# Altium footprint library Module.PcbLib: 11 footprints
Each footprint in its own frame and in the unit in brackets; x right, y up, seen from the top. Pads: shape width x height; smd on the part's side, far side on the other; paste and mask are expansions set on the pad; w line width, h text height; cw(c..) or ccw(c..) is an arc to the next point about the centre after c.
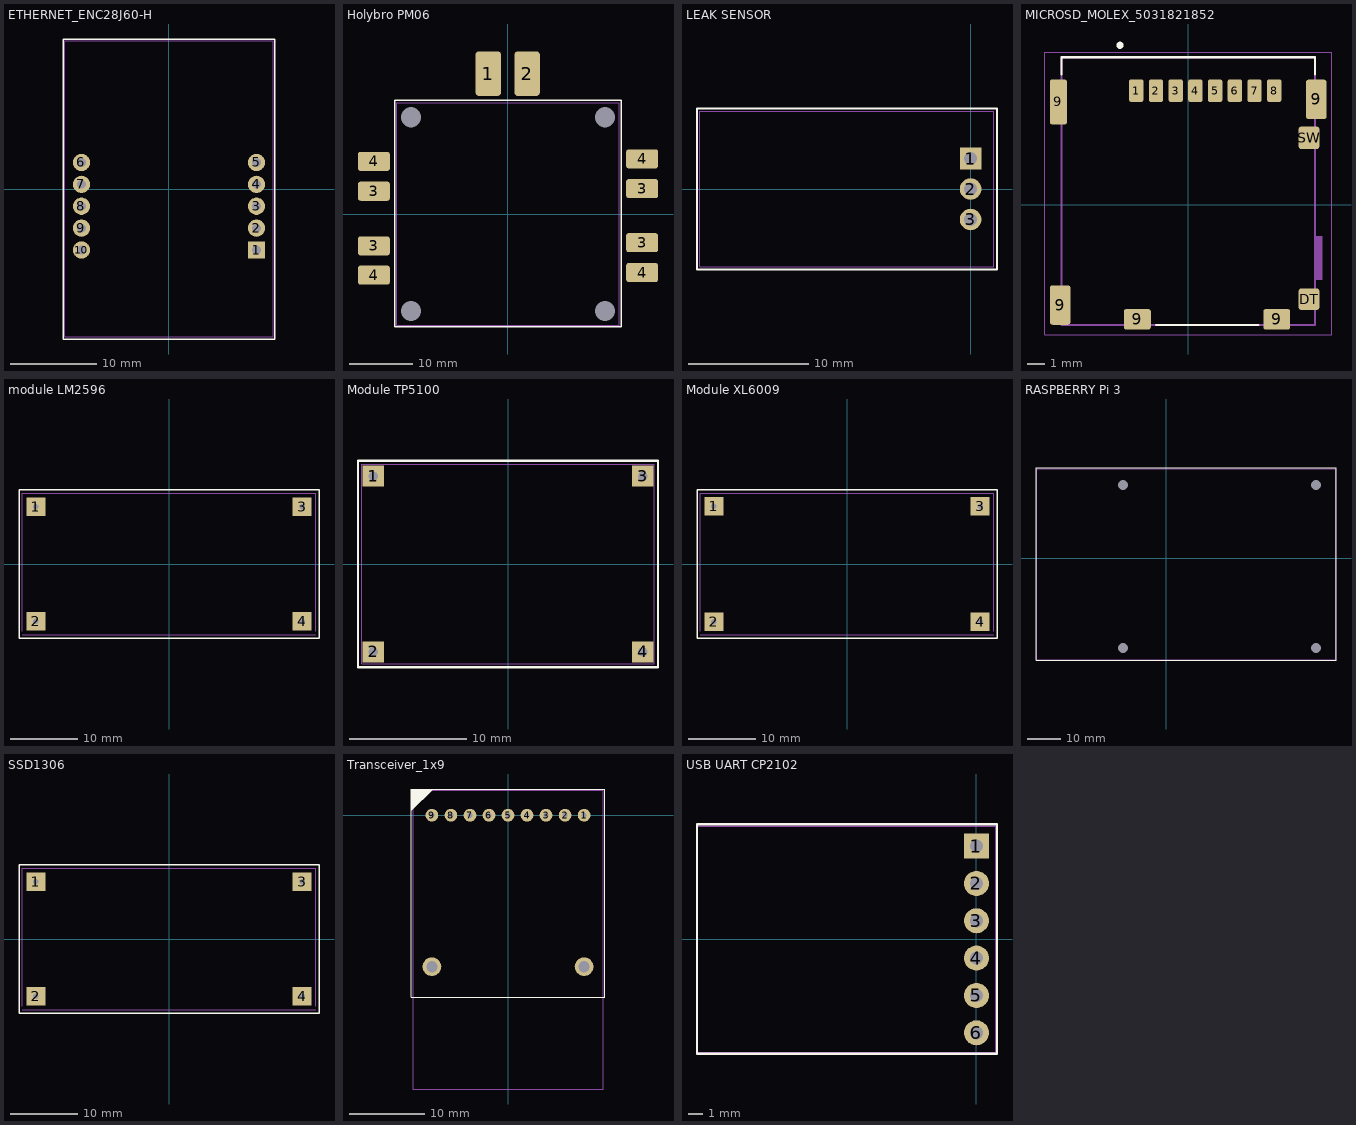
[diagram p0: the footprints below, top view; thin cyan lines are the x and y axes]

## ETHERNET_ENC28J60-H [mm]
height 0.05
pads (10):
  rect 2x2 hole 1: 1(10.15,-7.08)
  round 2 hole 1 mask+0.102: 2(10.15,-4.54) 9(-10.15,-4.54)
  round 2 hole 1: 3(10.15,-2) 4(10.15,0.54) 5(10.15,3.08) 6(-10.15,3.08) 7(-10.15,0.54) 8(-10.15,-2) 10(-10.15,-7.08)
Top Overlay:
  lines w0.15: -12.25,-17.4 -12.25,17.4 12.25,17.4 12.25,-17.4 -12.25,-17.4
Mechanical 7:
  lines w0.1: -12.065,-17.145 -12.065,17.185 12.065,17.185 12.065,-17.145 -12.065,-17.145
3D body "Rj-45.STEP": height 17, standoff -7, extent -12.065,-17.145 12.065,17.185

## Holybro PM06 [mm]
pads (14):
  rrect25% 4x7 smd: 1(-3.1,22.1) 2(3,22.1)
  rrect25% 5x3 smd: 3(-21.099,-5) 3(-21.099,3.6) 3(21.1,-4.5) 3(21.1,4) 4(-21.099,-9.6) 4(-21.099,8.3) 4(21.1,-9.2) 4(21.1,8.7)
  round 0 hole 3.2 unplated: ""(-15.25,-15.25) ""(-15.25,15.25) ""(15.25,-15.25) ""(15.25,15.25)
Top Overlay:
  lines w0.2: -17.8,-17.7 17.8,-17.7 17.8,17.9 -17.8,17.9 -17.8,-17.7
Mechanical 7:
  lines w0.05: -17.5,-17.5 17.5,-17.5 17.5,-10.5 17.5,17.5 -17.5,17.5 -17.5,-17.5
3D body "PM06.step": height 5.16, standoff 0, extent -17.5,-17.5 17.501,17.5

## LEAK SENSOR [mm]
height 0.05
pads (3):
  rect 1.8x1.8 hole 1.1: 1(0,2.54)
  round 1.8 hole 1.1: 2(0,0) 3(0,-2.54)
Top Overlay:
  lines w0.15: -22.8,-6.7 -22.8,6.7 2.2,6.7 2.2,-6.7 -22.8,-6.7
Mechanical 7:
  lines w0.1: -22.55,-6.5 -22.55,6.5 1.95,6.5 1.95,-6.5 -22.55,-6.5
3D body "sos-asm-leak-sensor-r1_asm.stp": height 9.75, standoff 0.25, extent -22.55,-6.5 1.95,6.5

## MICROSD_MOLEX_5031821852 [mm]
height 0.05
pads (15):
  rrect25% 0.8x1.24 smd: 1(-2.9,6.355) 2(-1.8,6.355) 3(-0.7,6.355) 4(0.4,6.355) 5(1.5,6.355) 6(2.6,6.355) 7(3.7,6.355) 8(4.8,6.355)
  rrect25% 0.95x2.5 smd: 9(-7.245,5.725)
  rrect25% 1.15x2.2 smd: 9(-7.145,-5.605) 9(7.145,5.875)
  rrect25% 1.5x1.15 smd: 9(-2.84,-6.4) 9(4.94,-6.4)
  rrect25% 1.16x1.2 smd: DT(6.74,-5.275)
  rrect25% 1.16x1.25 smd: SW(6.74,3.725)
Top Overlay:
  circle w0.2: c-3.81,8.89 r0.1
  lines w0.127: -7.07,7.28 -7.07,8.225 7.07,8.225 7.07,7.28 ; -1.8,-6.725 3.9,-6.725
Mechanical 13:
  lines w0.127: -7.07,-6.725 7.07,-6.725 7.07,8.225 -7.07,8.225 -7.07,-6.725
Mechanical 15:
  region: 7.47,-4.184 7.085,-4.184 7.085,-1.775 7.47,-1.775
  lines w0.05: -8,-7.25 8,-7.25 8,8.5 -8,8.5 -8,-7.25
3D body "5031821852.stp": height 1.53, standoff 0.03, extent -7.47,-6.738 7.47,8.212

## module LM2596 [mm]
pads (4):
  rect 2.8x2.8 hole 0.8: 1(-19.75,8.5) 2(-19.75,-8.5) 3(19.75,8.5) 4(19.75,-8.5)
Top Overlay:
  lines w0.2: -22.25,-11 -22.25,11 22.25,11 22.25,-11 -22.25,-11
Mechanical 7:
  lines w0.05: -21.75,-10.5 0.75,-10.5 21.75,-10.5 ; -21.75,-10 -21.75,10.5 21.75,10.5 21.75,-10
3D body "User Library-DC-DC MODULE LM2596s.STEP": height 15.41, standoff 1.6, extent -21.75,-10.5 21.75,10.5

## Module TP5100 [mm]
pads (4):
  rect 1.8x1.8 hole 0.8: 1(-11.5,7.5) 2(-11.5,-7.5) 3(11.5,7.5) 4(11.5,-7.5)
Top Overlay:
  lines w0.2: -12.8,-8.8 12.8,-8.8 12.8,8.8 -12.8,8.8 -12.8,-8.8
Mechanical 7:
  lines w0.05: -12.5,-8.5 12.5,-8.5 12.5,8.5 -12.5,8.5 -12.5,-8.5

## Module XL6009 [mm]
pads (4):
  rect 2.8x2.8 hole 0.8: 1(-19.75,8.572) 2(-19.75,-8.572) 3(19.75,8.572) 4(19.75,-8.572)
Top Overlay:
  lines w0.2: -22.25,-11 22.25,-11 22.25,11 -22.25,11 -22.25,-11
Mechanical 7:
  lines w0.05: -21.75,-10.5 0.75,-10.5 21.75,-10.5 ; -21.75,-10 -21.75,10.5 21.75,10.5 21.75,-10
3D body "User Library-DC-DC MODULE LM2596s.STEP": height 13.71, standoff -0.1, extent -21.75,-10.5 21.75,10.5

## RASPBERRY Pi 3 [mm]
pads (4):
  round 0 hole 3: ""(-13.05,22.025) ""(-13.05,-26.936) ""(44.925,22.025) ""(44.931,-26.936)
Top Overlay:
  lines w0.2: -39.1,-30.6 -39.1,27.1 50.9,27.1 50.9,-30.6 -39.1,-30.6
Mechanical 7:
  lines w0.05: -38.93,26.9 50.706,26.9 ; -38.925,26.9 -38.925,-30.411 -15.294,-30.411 7.206,-30.411 29.706,-30.411 50.706,-30.411 50.7,26.9
3D body "User Library-Raspberry Pi 3-2.step": height 18.49, standoff -0.1, extent -38.93,-30.411 50.706,26.9

## SSD1306 [mm]
pads (4):
  rect 2.8x2.8 hole 0.8: 1(-19.75,8.5) 2(-19.75,-8.5) 3(19.75,8.5) 4(19.75,-8.5)
Top Overlay:
  lines w0.2: -22.25,-11 -22.25,11 22.25,11 22.25,-11 -22.25,-11
Mechanical 7:
  lines w0.05: -21.75,-10.5 0.75,-10.5 21.75,-10.5 ; -21.75,-10 -21.75,10.5 21.75,10.5 21.75,-10

## Transceiver_1x9 [mm]
height 0.05
pads (11):
  round 1.7 hole 0.7: 1(10.16,0) 2(7.62,0) 3(5.08,0) 4(2.54,0) 5(0,0) 6(-2.54,0) 7(-5.08,0) 8(-7.62,0) 9(-10.16,0)
  round 2.5 hole 1.5: ""(-10.16,-20.22) ""(10.16,-20.22)
Top Overlay:
  region: -12.9,3.5 -10,3.5 -12.9,0.6
  lines w0.15: -12.9,-24.3 12.9,-24.3 12.9,3.5 -12.9,3.5 -12.9,-24.3
Mechanical 7:
  lines w0.1: -12.7,-36.55 12.7,-36.55 12.7,3.35 -12.7,3.35 -12.7,-36.55
3D body "User Library-transceiver.step": height 9.95, standoff -3.25, extent -12.7,-36.55 12.7,3.35

## USB UART CP2102 [mm]
height 0.05
pads (6):
  rect 1.7x1.7 hole 0.9: 1(0,6.345)
  round 1.7 hole 0.9: 2(0,3.805) 3(0,1.265) 5(0,-3.815) 6(0,-6.355)
  round 1.7 hole 0.9 mask+0.102: 4(0,-1.275)
Top Overlay:
  lines w0.15: -19,-7.775 -19,7.825 1.4,7.825 1.4,-7.775 -19,-7.775
Mechanical 7:
  lines w0.1: -19,-7.7 -19,7.7 1.3,7.7 1.3,-7.7 -19,-7.7
Mechanical 10:
  text ".Comment" at 1.1,-0.3 h0.6
  text ".Designator" at 1.2,8.4 h0.8
3D body "User Library-PLS-6.step": height 8.54, standoff -3, extent -1.27,-7.585 1.27,7.655